# Altium footprint library SparkFun-Hardware.PCBLIB: 30 footprints (part 2 of 2)
Each footprint in its own frame and in the unit in brackets; x right, y up, seen from the top. Pads: shape width x height; smd on the part's side, far side on the other; paste and mask are expansions set on the pad; w line width, h text height; cw(c..) or ccw(c..) is an arc to the next point about the centre after c.
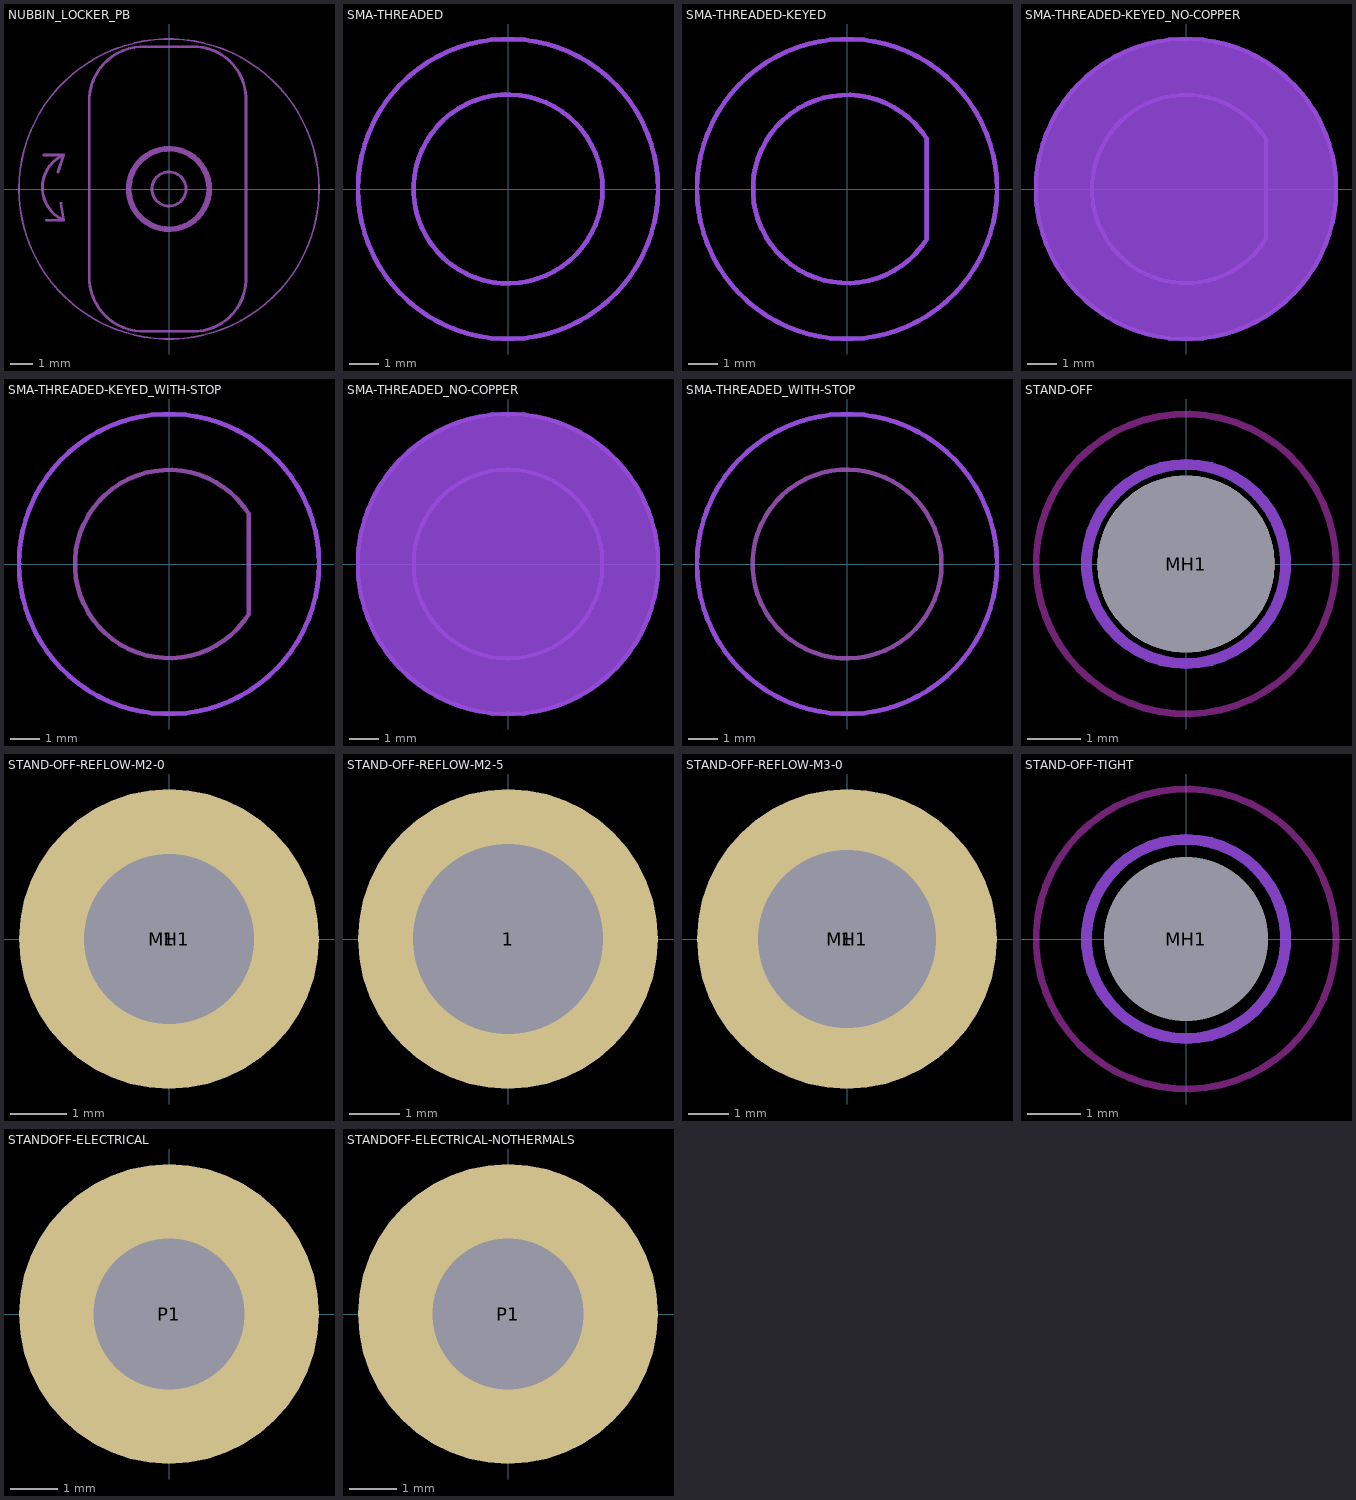
[diagram p1: the footprints below, top view; thin cyan lines are the x and y axes]

## NUBBIN_LOCKER_PB [mm]
Reference:
  circle w0.254: c0,0 r1.796
  circle w0.076: c0,0 r6.692
  lines w0.127: -5.588,1.524 -4.699,1.524 -4.953,0.762 ; -5.461,-1.397 -4.699,-1.397 -4.826,-0.635 ; -4.813,1.465 ccw(c-4.063,0.065) -4.735,-1.374 ; -3.556,-3.81 -3.556,3.81 cw(c-1.143,3.937) -1.27,6.35 1.27,6.35 cw(c1.079,4) 3.429,3.81 3.429,-3.81 cw(c1.079,-4) 1.27,-6.35 -1.27,-6.35 cw(c-1.143,-3.937) -3.556,-3.81
Mech64:
  circle w0.127: c0,0 r0.762

## SMA-THREADED [mm]
Top keep-out:
  circle w0.152: c0,0 r5.08
  circle w0.152: c0,0 r3.2
Bottom keep-out:
  circle w0.152: c0,0 r5.08
  circle w0.152: c0,0 r3.2
Milling:
  circle w0.152: c0,0 r3.2
  text "Route" at 0,0.572 h1.18
  text "Out" at 0,-0.572 h1.18
tDocu:
  circle w0.152: c0,0 r5.08
  circle w0.152: c0,0 r3.2
  text "Route" at 0,0.572 h1.18
  text "Out" at 0,-0.572 h1.18
  text "Anti-Slip Washer" at 0,-3.81 h0.39

## SMA-THREADED-KEYED [mm]
Top keep-out:
  circle w0.152: c0,0 r5.08
  lines w0.152: 2.7,-1.7 cw(c0.002,0) 2.7,1.7 2.7,-1.7
Bottom keep-out:
  circle w0.152: c0,0 r5.08
  lines w0.152: 2.7,-1.7 cw(c0.002,0) 2.7,1.7 2.7,-1.7
Milling:
  lines w0.152: 2.7,-1.7 cw(c0.002,0) 2.7,1.7 2.7,-1.7
  text "Route" at 0,0.572 h1.18
  text "Out" at 0,-0.572 h1.18
tDocu:
  circle w0.152: c0,0 r5.08
  lines w0.152: 2.7,-1.7 cw(c0.002,0) 2.7,1.7 2.7,-1.7
  text "Route" at 0,0.572 h1.18
  text "Out" at 0,-0.572 h1.18
  text "Anti-Slip Washer" at 0,-3.81 h0.39

## SMA-THREADED-KEYED_NO-COPPER [mm]
Top keep-out:
  circle w0.152: c0,0 r5.08
  circle w5.08: c0,0 r2.54
Bottom keep-out:
  circle w0.152: c0,0 r5.08
  circle w5.08: c0,0 r2.54
Top Solder:
  circle w5.08: c0,0 r2.54
Bottom Solder:
  circle w5.08: c0,0 r2.54
Milling:
  lines w0.152: 2.7,-1.7 cw(c0.002,0) 2.7,1.7 2.7,-1.7
  text "Route" at 0,0.572 h1.18
  text "Out" at 0,-0.572 h1.18
tDocu:
  circle w0.152: c0,0 r5.08
  lines w0.152: 2.7,-1.7 cw(c0.002,0) 2.7,1.7 2.7,-1.7
  text "Route" at 0,0.572 h1.18
  text "Out" at 0,-0.572 h1.18
  text "Anti-Slip Washer" at 0,-3.81 h0.39

## SMA-THREADED-KEYED_WITH-STOP [mm]
Top keep-out:
  circle w0.152: c0,0 r5.08
Bottom keep-out:
  circle w0.152: c0,0 r5.08
Top Solder:
  circle w5.08: c0,0 r2.54
Bottom Solder:
  circle w5.08: c0,0 r2.54
Milling:
  lines w0.152: 2.7,-1.7 cw(c0.002,0) 2.7,1.7 2.7,-1.7
  text "Route" at 0,0.572 h1.18
  text "Out" at 0,-0.572 h1.18
tDocu:
  circle w0.152: c0,0 r5.08
  lines w0.152: 2.7,-1.7 cw(c0.002,0) 2.7,1.7 2.7,-1.7
  text "Route" at 0,0.572 h1.18
  text "Out" at 0,-0.572 h1.18
  text "Anti-Slip Washer" at 0,-3.81 h0.39

## SMA-THREADED_NO-COPPER [mm]
Top keep-out:
  circle w0.152: c0,0 r5.08
  circle w5.08: c0,0 r2.54
Bottom keep-out:
  circle w0.152: c0,0 r5.08
  circle w5.08: c0,0 r2.54
Top Solder:
  circle w5.08: c0,0 r2.54
Bottom Solder:
  circle w5.08: c0,0 r2.54
Milling:
  circle w0.152: c0,0 r3.2
  text "Route" at 0,0.572 h1.18
  text "Out" at 0,-0.572 h1.18
tDocu:
  circle w0.152: c0,0 r5.08
  circle w0.152: c0,0 r3.2
  text "Route" at 0,0.572 h1.18
  text "Out" at 0,-0.572 h1.18
  text "Anti-Slip Washer" at 0,-3.81 h0.39

## SMA-THREADED_WITH-STOP [mm]
Top keep-out:
  circle w0.152: c0,0 r5.08
Bottom keep-out:
  circle w0.152: c0,0 r5.08
Top Solder:
  circle w5.08: c0,0 r2.54
Bottom Solder:
  circle w5.08: c0,0 r2.54
Milling:
  circle w0.152: c0,0 r3.2
  text "Route" at 0,0.572 h1.18
  text "Out" at 0,-0.572 h1.18
tDocu:
  circle w0.152: c0,0 r5.08
  circle w0.152: c0,0 r3.2
  text "Route" at 0,0.572 h1.18
  text "Out" at 0,-0.572 h1.18
  text "Anti-Slip Washer" at 0,-3.81 h0.39

## STAND-OFF [mil]
pads (1):
  round 130 hole 130 unplated: MH1(0,0)
Top keep-out:
  circle w5: c0,0 r110
  lines w8: 0,-73 ccw(c0,0) 0,73 ccw(c0,0) 0,-73
Bottom keep-out:
  lines w8: 0,-73 ccw(c0,0) 0,73 ccw(c0,0) 0,-73

## STAND-OFF-REFLOW-M2-0 [mm]
pads (2):
  rrect100% 5.3x5.3 smd paste+0: 1(0,0)
  round 3 hole 3 unplated: MH1(0,0)
Top Paste:
  drawing of 4 lines, arcs and shapes, not listed
tDocu:
  circle w0.1: c0,0 r2.175

## STAND-OFF-REFLOW-M2-5 [mm]
pads (1):
  round 6 hole 3.8: 1(0,0)
Top Paste:
  region: 0.4,1.9 0.54,1.875 0.812,1.79 1.066,1.664 1.297,1.498 1.498,1.297 1.664,1.066 1.79,0.812 1.875,0.54 1.9,0.4 3,0.4 2.971,0.647 2.831,1.124 2.615,1.57 2.327,1.975 1.975,2.327 1.57,2.615 1.124,2.831 0.647,2.971 0.4,3
  region: -1.9,0.4 -1.875,0.54 -1.79,0.812 -1.664,1.066 -1.498,1.297 -1.297,1.498 -1.066,1.664 -0.812,1.79 -0.54,1.875 -0.4,1.9 -0.4,3 -0.647,2.971 -1.124,2.831 -1.57,2.615 -1.975,2.327 -2.327,1.975 -2.615,1.57 -2.831,1.124 -2.971,0.647 -3,0.4
  region: -0.4,-1.9 -0.54,-1.875 -0.812,-1.79 -1.066,-1.664 -1.297,-1.498 -1.498,-1.297 -1.664,-1.066 -1.79,-0.812 -1.875,-0.54 -1.9,-0.4 -3,-0.4 -2.971,-0.647 -2.831,-1.124 -2.615,-1.57 -2.327,-1.975 -1.975,-2.327 -1.57,-2.615 -1.124,-2.831 -0.647,-2.971 -0.4,-3
  region: 1.9,-0.4 1.875,-0.54 1.79,-0.812 1.664,-1.066 1.498,-1.297 1.297,-1.498 1.066,-1.664 0.812,-1.79 0.54,-1.875 0.4,-1.9 0.4,-3 0.647,-2.971 1.124,-2.831 1.57,-2.615 1.975,-2.327 2.327,-1.975 2.615,-1.57 2.831,-1.124 2.971,-0.647 3,-0.4

## STAND-OFF-REFLOW-M3-0 [mm]
pads (2):
  rrect100% 7.4x7.4 smd paste+0: 1(0,0)
  round 4.4 hole 4.4 unplated: MH1(0,0)
Top Paste:
  region: -3.6,0.4 -2.25,0.4 -2.213,0.57 -2.101,0.9 -1.941,1.208 -1.735,1.489 -1.489,1.735 -1.208,1.941 -0.9,2.101 -0.57,2.213 -0.4,2.25 -0.4,3.6 -0.602,3.577 -1,3.486 -1.384,3.351 -1.751,3.174 -2.096,2.957 -2.415,2.703 -2.703,2.415 -2.957,2.096 -3.174,1.751 -3.351,1.384 -3.486,1 -3.577,0.602 -3.6,0.4
  region: 3.6,-0.4 2.25,-0.4 2.213,-0.57 2.101,-0.9 1.941,-1.208 1.735,-1.489 1.489,-1.735 1.208,-1.941 0.9,-2.101 0.57,-2.213 0.4,-2.25 0.4,-3.6 0.602,-3.577 1,-3.486 1.384,-3.351 1.751,-3.174 2.096,-2.957 2.415,-2.703 2.703,-2.415 2.957,-2.096 3.174,-1.751 3.351,-1.384 3.486,-1 3.577,-0.602 3.6,-0.4
  region: 3.6,0.4 2.25,0.4 2.213,0.57 2.101,0.9 1.941,1.208 1.735,1.489 1.489,1.735 1.208,1.941 0.9,2.101 0.57,2.213 0.4,2.25 0.4,3.6 0.602,3.577 1,3.486 1.384,3.351 1.751,3.174 2.096,2.957 2.415,2.703 2.703,2.415 2.957,2.096 3.174,1.751 3.351,1.384 3.486,1 3.577,0.602 3.6,0.4
  region: -3.6,-0.4 -2.25,-0.4 -2.213,-0.57 -2.101,-0.9 -1.941,-1.208 -1.735,-1.489 -1.489,-1.735 -1.208,-1.941 -0.9,-2.101 -0.57,-2.213 -0.4,-2.25 -0.4,-3.6 -0.602,-3.577 -1,-3.486 -1.384,-3.351 -1.751,-3.174 -2.096,-2.957 -2.415,-2.703 -2.703,-2.415 -2.957,-2.096 -3.174,-1.751 -3.351,-1.384 -3.486,-1 -3.577,-0.602 -3.6,-0.4
tDocu:
  circle w0.1: c0,0 r3

## STAND-OFF-TIGHT [mil]
pads (1):
  round 120 hole 120 unplated: MH1(0,0)
Top keep-out:
  circle w5: c0,0 r110
  lines w8: 0,-73 ccw(c0,0) 0,73 ccw(c0,0) 0,-73
Bottom keep-out:
  lines w8: 0,-73 ccw(c0,0) 0,73 ccw(c0,0) 0,-73

## STANDOFF-ELECTRICAL [mm]
pads (1):
  round 6.35 hole 3.2: P1(0,0)

## STANDOFF-ELECTRICAL-NOTHERMALS [mm]
pads (1):
  round 6.35 hole 3.2: P1(0,0)